# Altium schematic symbol library Schlib1.SchLib: 3 symbols
Pins are listed as number, name and electrical type; pins without a type are passive.

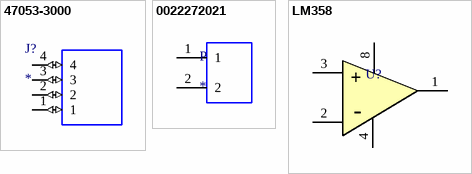
[diagram p0: symbols 47053-3000 to LM358]

## 47053-3000
designator J?
KKÂ® 254 Vertical Header, with Friction Lock, 4 Circuits, PC Tail Length: 4.00mm; MF: Molex; MP: 47053-3000; Check_prices: https://www.snapeda.com/parts/47053-3000/Molex/view-part/623783/?ref=eda; Package: None; Price: None; Value: *; Purchase-URL: https://pricing.snapeda.com/search/part/47053-3000/?ref=eda; Availability: Warning; SnapEDA_Link: https://www.snapeda.com/parts/47053-3000/Molex/view-part/623783/?ref=snap
footprint 470533000
pins: 1 (io), 2 (io), 3 (io), 4 (io)

## 0022272021
designator P
Connector Header Through Hole 2 position 0.100 _2.54mm_; MP: 0022272021; MF: Molex; SnapEDA_Link: https://www.snapeda.com/parts/0022272021/Molex/view-part/424357/?ref=snap; Availability: Unavailable; Package: None; Price: None; Value: *
footprint MOLEX_0022272021
pins: 1, 2

## LM358
designator U?  (value not drawn)
footprint DIP8
pins: 1, 2, 3, 4, 8 83
text: +; -